# EAGLE library part XCR3256XL-12PQG208C (library CPLD)
IC CPLD 256MC 10.8NS 208QFP Manufacturer's datasheet <https://www.xilinx.com/support/documentation/data_sheets/ds013.pdf>
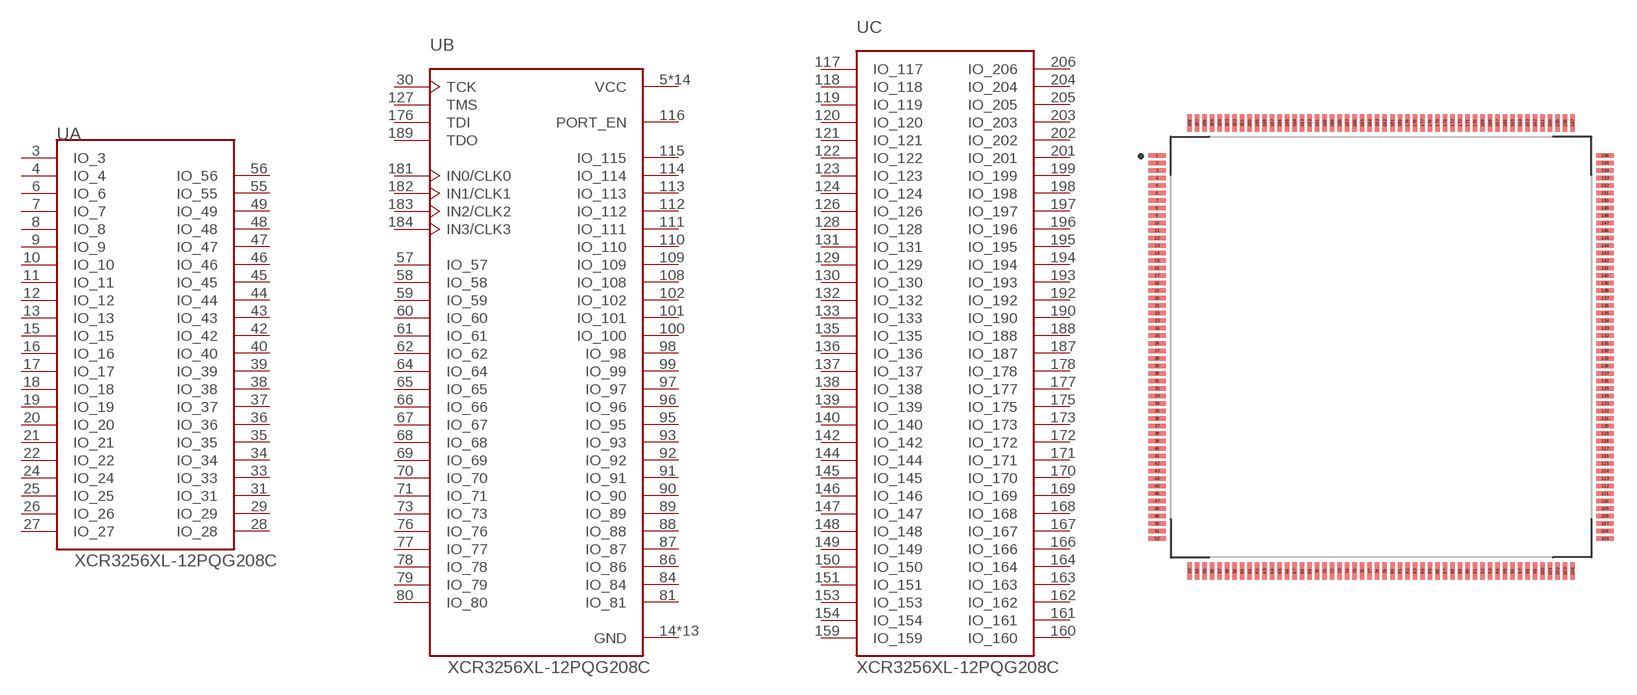
[diagram p12: symbol with the pads of PQ208; footprint PQ208]

Designator prefix U; gates A=XCR3256XL-12PQG208C_A B=XCR3256XL-12PQG208C_B C=XCR3256XL-12PQG208C_C

## XCR3256XL-12PQG208C (CREATED_BY: PCBLayout.com; DIGIKEY_PARTNO: 122-2142-ND; MANUFACTURER: Xilinx Inc.; MPN: XCR3256XL-12PQG208C; PACKAGE: QFP-208)  [PQ208]
3  A:IO_3
4  A:IO_4
5  B:VCC  pwr
6  A:IO_6
7  A:IO_7
8  A:IO_8
9  A:IO_9
10  A:IO_10
11  A:IO_11
12  A:IO_12
13  A:IO_13
14  B:GND  pwr
15  A:IO_15
16  A:IO_16
17  A:IO_17
18  A:IO_18
19  A:IO_19
20  A:IO_20
21  A:IO_21
22  A:IO_22
23  B:VCC  pwr
24  A:IO_24
25  A:IO_25
26  A:IO_26
27  A:IO_27
28  A:IO_28
29  A:IO_29
30  B:TCK  oc
31  A:IO_31
32  B:GND  pwr
33  A:IO_33
34  A:IO_34
35  A:IO_35
36  A:IO_36
37  A:IO_37
38  A:IO_38
39  A:IO_39
40  A:IO_40
41  B:VCC  pwr
42  A:IO_42
43  A:IO_43
44  A:IO_44
45  A:IO_45
46  A:IO_46
47  A:IO_47
48  A:IO_48
49  A:IO_49
50  B:GND  pwr
55  A:IO_55
56  A:IO_56
57  B:IO_57
58  B:IO_58
59  B:IO_59
60  B:IO_60
61  B:IO_61
62  B:IO_62
63  B:VCC  pwr
64  B:IO_64
65  B:IO_65
66  B:IO_66
67  B:IO_67
68  B:IO_68
69  B:IO_69
70  B:IO_70
71  B:IO_71
72  B:GND  pwr
73  B:IO_73
74  B:VCC  pwr
75  B:GND  pwr
76  B:IO_76
77  B:IO_77
78  B:IO_78
79  B:IO_79
80  B:IO_80
81  B:IO_81
82  B:GND  pwr
83  B:VCC  pwr
84  B:IO_84
85  B:VCC  pwr
86  B:IO_86
87  B:IO_87
88  B:IO_88
89  B:IO_89
90  B:IO_90
91  B:IO_91
92  B:IO_92
93  B:IO_93
94  B:GND  pwr
95  B:IO_95
96  B:IO_96
97  B:IO_97
98  B:IO_98
99  B:IO_99
100  B:IO_100
101  B:IO_101
102  B:IO_102
107  B:VCC  pwr
108  B:IO_108
109  B:IO_109
110  B:IO_110
111  B:IO_111
112  B:IO_112
113  B:IO_113
114  B:IO_114
115  B:IO_115
116  B:PORT_EN  in
117  C:IO_117
118  C:IO_118
119  C:IO_119
120  C:IO_120
121  C:IO_121
122  C:IO_122
123  C:IO_123
124  C:IO_124
125  B:VCC  pwr
126  C:IO_126
127  B:TMS  in
128  C:IO_128
129  C:IO_129
130  C:IO_130
131  C:IO_131
132  C:IO_132
133  C:IO_133
134  B:GND  pwr
135  C:IO_135
136  C:IO_136
137  C:IO_137
138  C:IO_138
139  C:IO_139
140  C:IO_140
142  C:IO_142
143  B:VCC  pwr
144  C:IO_144
145  C:IO_145
146  C:IO_146
147  C:IO_147
148  C:IO_148
149  C:IO_149
150  C:IO_150
151  C:IO_151
152  B:GND  pwr
153  C:IO_153
154  C:IO_154
159  C:IO_159
160  C:IO_160
161  C:IO_161
162  C:IO_162
163  C:IO_163
164  C:IO_164
165  B:VCC  pwr
166  C:IO_166
167  C:IO_167
168  C:IO_168
169  C:IO_169
170  C:IO_170
171  C:IO_171
172  C:IO_172
173  C:IO_173
174  B:GND  pwr
175  C:IO_175
176  B:TDI  in
177  C:IO_177
178  C:IO_178
179  B:VCC  pwr
180  B:GND  pwr
181  B:IN0/CLK0  in
182  B:IN1/CLK1  in
183  B:IN2/CLK2  in
184  B:IN3/CLK3  in
185  B:GND  pwr
186  B:VCC  pwr
187  C:IO_187
188  C:IO_188
189  B:TDO  out
190  C:IO_190
191  B:VCC  pwr
192  C:IO_192
193  C:IO_193
194  C:IO_194
195  C:IO_195
196  C:IO_196
197  C:IO_197
198  C:IO_198
199  C:IO_199
200  B:GND  pwr
201  C:IO_201
202  C:IO_202
203  C:IO_203
204  C:IO_204
205  C:IO_205
206  C:IO_206

## Footprint PQ208 (pad centres in mm)
smd 1.18 x 0.3: 1 -14.915,12.75; 2 -14.915,12.25; 3 -14.915,11.75; 4 -14.915,11.25; 5 -14.915,10.75; 6 -14.915,10.25; 7 -14.915,9.75; 8 -14.915,9.25; 9 -14.915,8.75; 10 -14.915,8.25; 11 -14.915,7.75; 12 -14.915,7.25; 13 -14.915,6.75; 14 -14.915,6.25; 15 -14.915,5.75; 16 -14.915,5.25; 17 -14.915,4.75; 18 -14.915,4.25; 19 -14.915,3.75; 20 -14.915,3.25; 21 -14.915,2.75; 22 -14.915,2.25; 23 -14.915,1.75; 24 -14.915,1.25; 25 -14.915,0.75; 26 -14.915,0.25; 27 -14.915,-0.25; 28 -14.915,-0.75; 29 -14.915,-1.25; 30 -14.915,-1.75; 31 -14.915,-2.25; 32 -14.915,-2.75; 33 -14.915,-3.25; 34 -14.915,-3.75; 35 -14.915,-4.25; 36 -14.915,-4.75; 37 -14.915,-5.25; 38 -14.915,-5.75; 39 -14.915,-6.25; 40 -14.915,-6.75; 41 -14.915,-7.25; 42 -14.915,-7.75; 43 -14.915,-8.25; 44 -14.915,-8.75; 45 -14.915,-9.25; 46 -14.915,-9.75; 47 -14.915,-10.25; 48 -14.915,-10.75; 49 -14.915,-11.25; 50 -14.915,-11.75; 51 -14.915,-12.25; 52 -14.915,-12.75; 105 14.915,-12.75; 106 14.915,-12.25; 107 14.915,-11.75; 108 14.915,-11.25; 109 14.915,-10.75; 110 14.915,-10.25; 111 14.915,-9.75; 112 14.915,-9.25; 113 14.915,-8.75; 114 14.915,-8.25; 115 14.915,-7.75; 116 14.915,-7.25; 117 14.915,-6.75; 118 14.915,-6.25; 119 14.915,-5.75; 120 14.915,-5.25; 121 14.915,-4.75; 122 14.915,-4.25; 123 14.915,-3.75; 124 14.915,-3.25; 125 14.915,-2.75; 126 14.915,-2.25; 127 14.915,-1.75; 128 14.915,-1.25; 129 14.915,-0.75; 130 14.915,-0.25; 131 14.915,0.25; 132 14.915,0.75; 133 14.915,1.25; 134 14.915,1.75; 135 14.915,2.25; 136 14.915,2.75; 137 14.915,3.25; 138 14.915,3.75; 139 14.915,4.25; 140 14.915,4.75; 141 14.915,5.25; 142 14.915,5.75; 143 14.915,6.25; 144 14.915,6.75; 145 14.915,7.25; 146 14.915,7.75; 147 14.915,8.25; 148 14.915,8.75; 149 14.915,9.25; 150 14.915,9.75; 151 14.915,10.25; 152 14.915,10.75; 153 14.915,11.25; 154 14.915,11.75; 155 14.915,12.25; 156 14.915,12.75
smd 0.3 x 1.18: 53 -12.75,-14.915; 54 -12.25,-14.915; 55 -11.75,-14.915; 56 -11.25,-14.915; 57 -10.75,-14.915; 58 -10.25,-14.915; 59 -9.75,-14.915; 60 -9.25,-14.915; 61 -8.75,-14.915; 62 -8.25,-14.915; 63 -7.75,-14.915; 64 -7.25,-14.915; 65 -6.75,-14.915; 66 -6.25,-14.915; 67 -5.75,-14.915; 68 -5.25,-14.915; 69 -4.75,-14.915; 70 -4.25,-14.915; 71 -3.75,-14.915; 72 -3.25,-14.915; 73 -2.75,-14.915; 74 -2.25,-14.915; 75 -1.75,-14.915; 76 -1.25,-14.915; 77 -0.75,-14.915; 78 -0.25,-14.915; 79 0.25,-14.915; 80 0.75,-14.915; 81 1.25,-14.915; 82 1.75,-14.915; 83 2.25,-14.915; 84 2.75,-14.915; 85 3.25,-14.915; 86 3.75,-14.915; 87 4.25,-14.915; 88 4.75,-14.915; 89 5.25,-14.915; 90 5.75,-14.915; 91 6.25,-14.915; 92 6.75,-14.915; 93 7.25,-14.915; 94 7.75,-14.915; 95 8.25,-14.915; 96 8.75,-14.915; 97 9.25,-14.915; 98 9.75,-14.915; 99 10.25,-14.915; 100 10.75,-14.915; 101 11.25,-14.915; 102 11.75,-14.915; 103 12.25,-14.915; 104 12.75,-14.915; 157 12.75,14.915; 158 12.25,14.915; 159 11.75,14.915; 160 11.25,14.915; 161 10.75,14.915; 162 10.25,14.915; 163 9.75,14.915; 164 9.25,14.915; 165 8.75,14.915; 166 8.25,14.915; 167 7.75,14.915; 168 7.25,14.915; 169 6.75,14.915; 170 6.25,14.915; 171 5.75,14.915; 172 5.25,14.915; 173 4.75,14.915; 174 4.25,14.915; 175 3.75,14.915; 176 3.25,14.915; 177 2.75,14.915; 178 2.25,14.915; 179 1.75,14.915; 180 1.25,14.915; 181 0.75,14.915; 182 0.25,14.915; 183 -0.25,14.915; 184 -0.75,14.915; 185 -1.25,14.915; 186 -1.75,14.915; 187 -2.25,14.915; 188 -2.75,14.915; 189 -3.25,14.915; 190 -3.75,14.915; 191 -4.25,14.915; 192 -4.75,14.915; 193 -5.25,14.915; 194 -5.75,14.915; 195 -6.25,14.915; 196 -6.75,14.915; 197 -7.25,14.915; 198 -7.75,14.915; 199 -8.25,14.915; 200 -8.75,14.915; 201 -9.25,14.915; 202 -9.75,14.915; 203 -10.25,14.915; 204 -10.75,14.915; 205 -11.25,14.915; 206 -11.75,14.915; 207 -12.25,14.915; 208 -12.75,14.915